# EAGLE library part AD8495 (library 1)
Thermocouple Amplifier with Cold Junction Compensation for J or K type
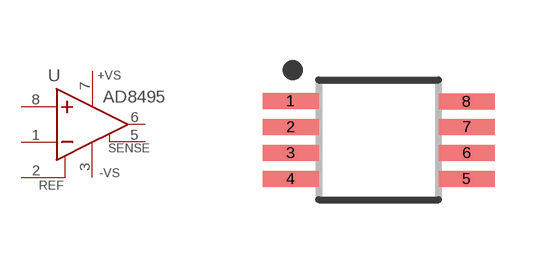
[diagram p3: symbol with the pads of MSOP-8_(MO-187-AA); footprint MSOP-8_(MO-187-AA)]

Designator prefix U

## AD8495  [MSOP-8_(MO-187-AA)]
1  -IN
2  REF
3  -VS
5  SENSE
6  OUT
7  +VS
8  +IN

## Footprint MSOP-8_(MO-187-AA) (pad centres in mm)
smd 1.4 x 0.4: 1 -2.2,0.975; 2 -2.2,0.325; 3 -2.2,-0.325; 4 -2.2,-0.975; 5 2.2,-0.975; 6 2.2,-0.325; 7 2.2,0.325; 8 2.2,0.959